# Altium schematic symbol library SnapEDAsch.SchLib: 1 symbol
Pins are listed as number, name and electrical type; pins without a type are passive.

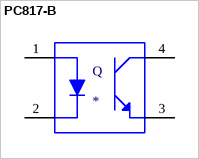
[diagram p0: symbol PC817-B]

## PC817-B
designator Q
Phototransistors 4-DIP _0.300, 7.62mm_; MP: PC817-B; MF: American Bright; SnapEDA_Link: https://www.snapeda.com/parts/PC817-B/American%20Bright/view-part/524587/?ref=snap; Availability: Unavailable; Value: *; Price: None; Package: DIP-4 American Bright
footprint DIP762W50P254L650H455Q4B
pins: 1 ANODE, 2 CATHODE, 3 EMITTER, 4 COLLECTOR